# Altium schematic symbol library Varistor.SchLib: 1 symbol
Pins are listed as number, name and electrical type; pins without a type are passive.

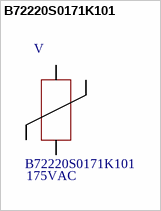
[diagram p0: symbol B72220S0171K101]

## B72220S0171K101
designator V  value 175VAC  Manufacturer Code: B72220S0171K101  (hidden comment: *)
Manufacturer: EPCOS; Voltage: 175 VAC; Farnell Code: 1004352; Unit Price: 1,39 €
footprint Varistor (Footprint not found)
pins: 1, 2